# Altium integrated library TLV70212DBVT.IntLib: 1 symbol
Pins are listed as number, name and electrical type; pins without a type are passive.

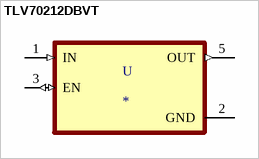
[diagram p0: symbol TLV70212DBVT]

## TLV70212DBVT
designator U
300-mA, high-PSRR, low-IQ, low-dropout voltage regulator with enable 5-SOT-23 -40 to 125; MF: Texas Instruments; MP: TLV70212DBVT; Availability: Unavailable; Value: *; Mouser-Purchase-URL: https://snapeda.com/shop?store=Mouser&id=799111; Texas_Instruments-Purchase-URL: https://snapeda.com/shop?store=Texas+Instruments&id=799111; Package: SOT-23-5 Texas Instruments; DigiKey-Purchase-URL: https://snapeda.com/shop?store=DigiKey&id=799111; Price: None; SnapEDA_Link: https://www.snapeda.com/parts/TLV70212DBVT/Texas%20Instruments/view-part/799111/?ref=snap
footprint SOT95P280X145-5N
pins: 1 IN (in), 2 GND (power), 3 EN (io), 5 OUT (out)